# Altium footprint library PCB.PcbLib: 101 footprints (part 1 of 7)
Each footprint in its own frame and in the unit in brackets; x right, y up, seen from the top. Pads: shape width x height; smd on the part's side, far side on the other; paste and mask are expansions set on the pad; w line width, h text height; cw(c..) or ccw(c..) is an arc to the next point about the centre after c.
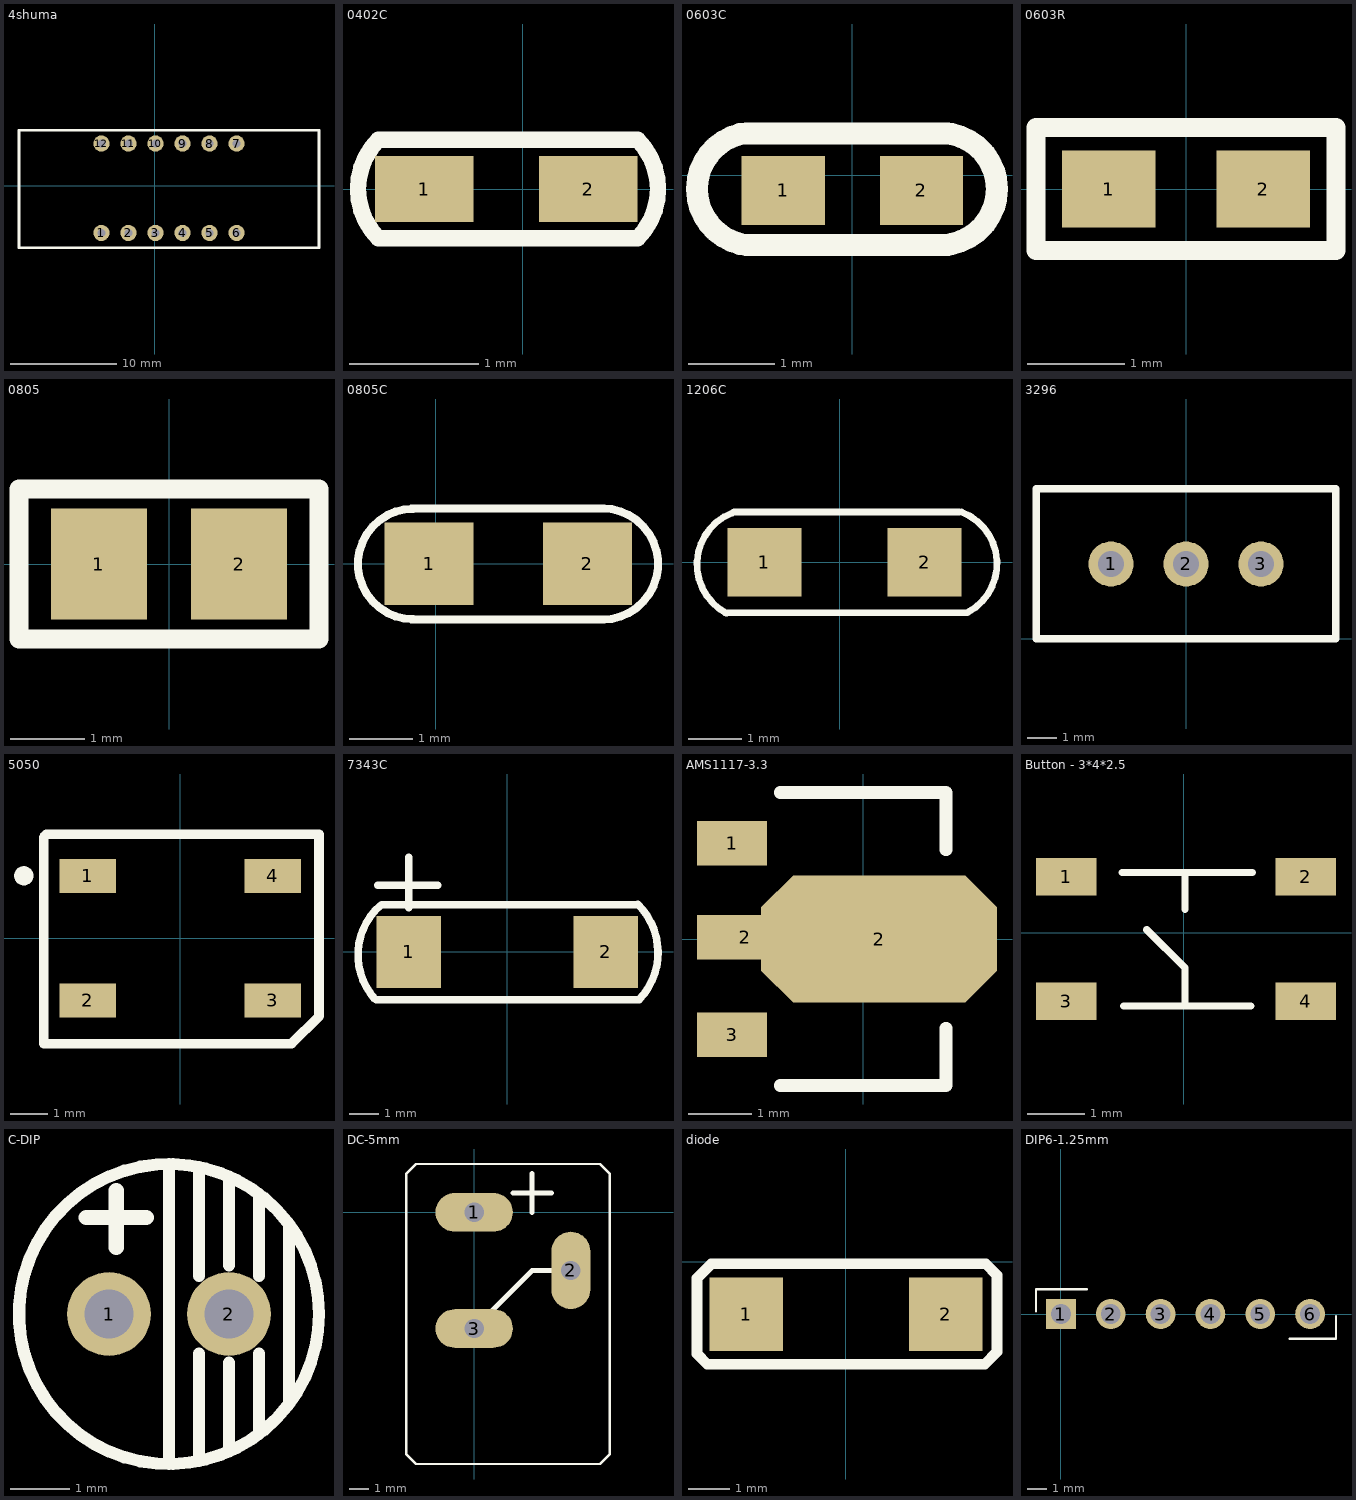
[diagram p0: the footprints below, top view; thin cyan lines are the x and y axes]

## 4shuma [mil]
pads (12):
  round 60 hole 30: 1(-197,-174) 2(-97,-174) 3(3,-174) 4(103,-174) 5(203,-174) 6(303,-174) 7(303,156.71) 8(203,156.71) 9(103,156.71) 10(3,156.71) 11(-97,156.71) 12(-197,156.71)
Top Overlay:
  lines w10: -502,-229 -502,206 608,206 608,-229 -502,-229

## 0402C [mil]
pads (2):
  rect 30x20 smd: 1(-30,0) 2(20,0)
Top Overlay:
  lines w5: -44,-15 cw(c-29,0) -44,15 35,15 cw(c20,0) 35,-15 -44,-15

## 0603C [mm]
height 9
pads (2):
  rect 0.965x0.8 smd: 1(-0.8,-0.175) 2(0.8,-0.175)
Top Overlay:
  lines w0.254: -1.3,-0.795 cw(c-1.147,-0.16) -1.3,0.475 ; -1.225,-0.81 1.1,-0.81 ; -1.225,0.485 1.1,0.485 ; 1.15,-0.795 ccw(c1.028,-0.16) 1.15,0.475
3D body "0603.STEP": height 0.48, standoff -0.03, extent -0.876,-0.608 0.724,0.252

## 0603R [mm]
pads (2):
  rect 0.965x0.8 smd: 1(-0.8,0) 2(0.8,0)
Top Overlay:
  lines w0.2: -1.549,-0.635 1.549,-0.635 1.549,0.635 -1.549,0.635 -1.549,0 -1.549,-0.635
3D body "0603.STEP": height 0.48, standoff -0.03, extent -0.876,-0.43 0.724,0.43

## 0805 [mm]
pads (2):
  rect 1.3x1.5 smd: 1(-0.95,0) 2(0.95,0)
Top Overlay:
  lines w0.254: -2.032,-1.016 2.032,-1.016 2.032,1.016 -2.032,1.016 -2.032,-1.016
3D body "0805_R.STEP": height 0.55, standoff 0, extent -1.051,-0.625 0.949,0.625

## 0805C [mm]
pads (2):
  rect 1.4x1.3 smd: 1(-0.102,0) 2(2.388,0)
Top Overlay:
  lines w0.127: -0.377,-0.876 2.647,-0.876 ; -0.377,0.871 2.647,0.871 ; -0.351,-0.87 cw(c-0.351,-0.003) -0.351,0.865 ; 2.622,-0.876 ccw(c2.622,-0.003) 2.622,0.871
3D body "0805_R.STEP": height 0, standoff -0.55, extent 0.143,-0.625 2.143,0.625

## 1206C [mm]
pads (2):
  rect 1.4x1.3 smd: 1(-1.425,0) 2(1.6,0)
Top Overlay:
  lines w0.127: -2.175,-0.95 2.4,-0.95 ; -2.139,-0.961 cw(c-1.653,-0.038) -2.034,0.933 ; -2,0.95 2.25,0.95 ; 2.299,0.949 cw(c1.925,-0.025) 2.411,-0.948
3D body "CAPACITOR 1206.step": height 1.53, standoff -0.03, extent -1.525,-0.805 1.675,0.855
3D body "CAPACITOR 1206.step": height 0.83, standoff -0.83, extent -15.975,2.845 -12.775,4.405

## 3296 [mil] "3296滑动电阻"
pads (3):
  round 60 hole 35: 1(-100,100) 2(0,100) 3(100,100)
Top Overlay:
  lines w10: -200,0 -200,200 200,200 200,0 -200,0

## 5050 [mm]
height 9
pads (4):
  rect 1.5x0.9 smd: 1(-2.45,1.65) 2(-2.45,-1.65) 3(2.45,-1.65) 4(2.45,1.65)
Top Overlay:
  circle w0.254: c-4.15,1.65 r0.127
  lines w0.254: -3.625,-2.8 -3.625,0.4 -3.625,2.675 -3.55,2.75 3.675,2.75 3.675,-2.075 2.95,-2.8 -3.625,-2.8
3D body "ws2812B-1.step": height 1.5, standoff -0.07, extent -2.675,-2.475 2.725,2.525

## 7343C [mm]
pads (2):
  rect 2.16x2.41 smd: 1(-3.305,0) 2(3.305,0)
Top Overlay:
  lines w0.254: -4.445,-1.575 cw(c-2.794,-0.102) -4.267,1.549 ; -4.394,-1.6 4.42,-1.6 ccw(c2.769,-0.025) 4.369,1.601 ; -4.343,2.235 -2.337,2.235 ; -4.216,1.575 4.343,1.575 ; -3.302,1.473 -3.302,3.175

## AMS1117-3.3 [mm] "SOT89, 3-Leads, Body 4.5x2.5mm (max), Pitch 1.50mm, Lead Span 3.3mm, IPC Medium Density"
height 1.6
pads (4):
  rect 1.1x0.7 smd: 1(-2.058,1.5) 3(-2.058,-1.5)
  rect 1.5x0.7 smd: 2(-1.854,0.025)
  oct 3.7x2 smd: 2(0.25,0)
Top Overlay:
  lines w0.2: -1.3,-2.3 1.3,-2.3 1.3,-1.4 ; -1.3,2.3 1.3,2.3 1.3,1.4
Mechanical 13:
  lines w0.1: -1.3,-2.3 1.3,-2.3 ; -1.3,2.3 1.3,2.3
Mechanical 15:
  lines w0.1: -0.5,0 0.5,0 ; 0,-0.5 0,0.5
3D body: height 1.6, standoff 0, extent -1.3,-2.3 1.3,2.3

## Button - 3*4*2.5 [mm] "3*4*2.5 轻触按键  包角 https://item.taobao.com/item.htm?id=554051899293"
pads (4):
  rect 1.05x0.65 smd: 1(-2.032,0.965) 2(2.118,0.965) 3(-2.032,-1.185) 4(2.118,-1.185)
Top Overlay:
  lines w0.127: -1.067,1.041 1.194,1.041 ; -1.041,-1.27 1.168,-1.27 ; -0.635,0.051 0.025,-0.61 0.025,-1.27 ; 0.025,0.406 0.025,1.016

## C-DIP [mil] "DIP"
height 354.33
pads (2):
  round 55 hole 32: 1(2195,-203) 2(2273.74,-203)
Top Overlay:
  circle w8: c2234.37,-203 r98.43
  lines w8: 2234.37,-301.43 2234.37,-104.57 ; 2254.06,-299.44 2254.06,-251.22 2254.06,-229 ; 2254.06,-178 2254.06,-154.78 2254.06,-106.56 ; 2273.74,-293.21 2273.74,-235 ; 2273.74,-171 2273.74,-112.79 ; 2293.43,-281.74 2293.43,-229 ; 2293.43,-178 2293.43,-124.26 ; 2313.11,-262.06 2313.11,-143.94
  lines w10: 2180.12,-139.76 2219.49,-139.76 ; 2199.8,-159.45 2199.8,-122.05
3D body "User Library-Aluminum Electrolytic Capacitors.STEP": height 500.04, standoff -50.31, extent 2103.53,-343.55 2371.24,-75.8

## DC-5mm [mm] "arduino charger / battery charger"
pads (3):
  oval 4x2 hole 1 square: 1(0,0) 3(0,-6)
  oval 2x4 hole 1 square: 2(5,-3)
Top Overlay:
  lines w0.127: 4.75,-3 5,-3 ; -3.5,-12.5 -3,-13 6.5,-13 7,-12.5 7,2 6.5,2.5 -3,2.5 -3.5,2 -3.5,-12.5
  lines w0.256: 0,-6 3,-3 4.75,-3 ; 2,1 4,1 ; 3,0 3,2

## diode [mil]
pads (2):
  rect 70x70 smd: 1(-95,-50) 2(95,-50)
Top Overlay:
  lines w10: -141.73,-87.6 -131.89,-97.44 131.89,-97.44 143.7,-85.63 143.7,-12.8 132.87,-1.97 -127.95,-1.97 -141.73,-15.75 -141.73,-87.6

## DIP6-1.25mm [mil] "pin8，符合洞洞板"
height 354.33
pads (6):
  rect 60x60 hole 40: 1(0,0)
  round 60 hole 40: 2(100,0) 3(200,0) 4(300,0) 5(400,0) 6(500,0)
Top Overlay:
  lines w5: -50,6 -50,50 52,50 ; 459,-50 552,-50 552,-5